# Altium footprint library 整流桥.PcbLib: 18 footprints (part 2 of 2)
Each footprint in its own frame and in the unit in brackets; x right, y up, seen from the top. Pads: shape width x height; smd on the part's side, far side on the other; paste and mask are expansions set on the pad; w line width, h text height; cw(c..) or ccw(c..) is an arc to the next point about the centre after c.
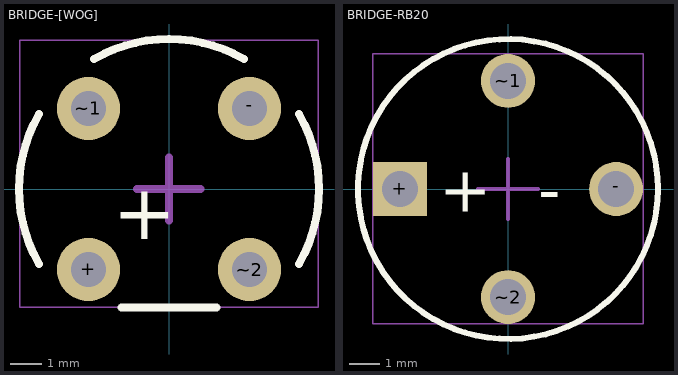
[diagram p1: the footprints below, top view; thin cyan lines are the x and y axes]

## BRIDGE-[WOG] [mm] "整流桥 WOG"
height 8
pads (4):
  round 2 hole 1.1: +(-2.55,-2.55) -(2.55,2.55) ~1(-2.55,2.55) ~2(2.55,-2.55)
Top Overlay:
  lines w0.254: -4.114,-2.375 cw(c0,0) -4.114,2.375 ; -2.375,4.114 cw(c0,0) 2.375,4.114 ; -1.5,-3.75 1.5,-3.75 ; 4.114,-2.375 ccw(c0,0) 4.114,2.375
  text "+" at -1.778,-2.159 h3
Mechanical 13:
  lines w0.05: -4.726,-3.75 4.727,-3.75 4.727,4.711 -4.726,4.711 -4.726,-3.75
Mechanical 15:
  lines w0.25: -1.016,0 1,0 ; 0,-1 0,1
3D body: height 7, standoff -8, extent -4.726,-3.75 4.726,4.711

## BRIDGE-RB20 [mm] "针式整流桥"
height 5
pads (4):
  rect 1.8x1.8 hole 1.2: +(-3.605,0)
  round 1.8 hole 1.2: -(3.605,0) ~1(0,3.605) ~2(0,-3.605)
Top Overlay:
  circle w0.2: c0,0 r5
  text "-" at 1.016,-0.762 h1.52
  text "+" at -2.286,-0.762 h1.52
Mechanical 13:
  lines w0.05: -4.5,-4.496 -4.5,4.504 4.5,4.504 4.5,-4.496 -4.5,-4.496
Mechanical 15:
  lines w0.127: -1,0 0,0 ; 0,-1 0,0 ; 0,1 0,0 ; 1,0 0,0
3D body: height 12.2, standoff -5, extent -4.5,-4.496 4.5,4.504